# Altium footprint library VISHAY-TSOP75238.PcbLib: 1 footprints
Each footprint in its own frame and in the unit in brackets; x right, y up, seen from the top. Pads: shape width x height; smd on the part's side, far side on the other; paste and mask are expansions set on the pad; w line width, h text height; cw(c..) or ccw(c..) is an arc to the next point about the centre after c.
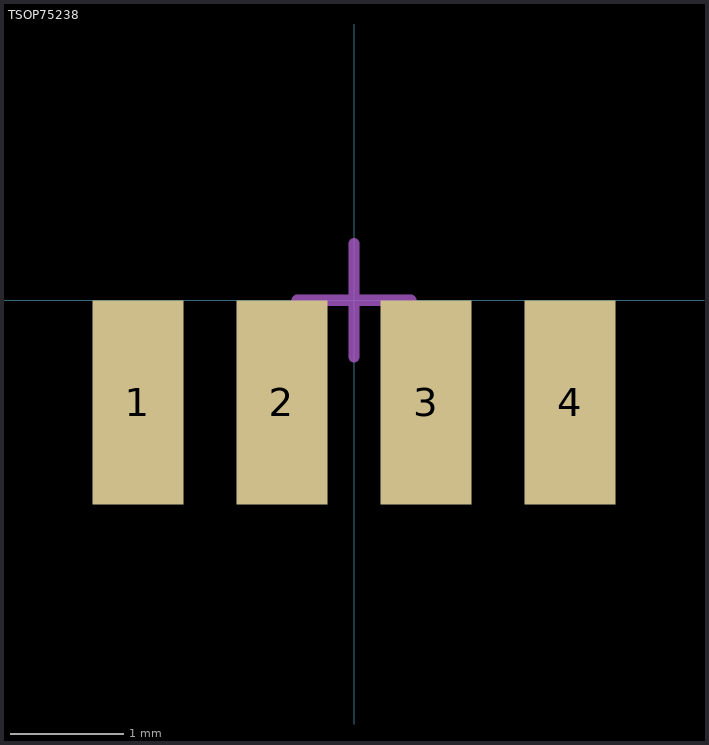
[diagram p0: the footprint, top view; thin cyan lines are the x and y axes]

## TSOP75238 [mm]
height 2.35
pads (4):
  rect 0.8x1.8 smd: 1(-1.905,-0.9) 2(-0.635,-0.9) 3(0.635,-0.9) 4(1.905,-0.9)
Mechanical 15:
  lines w0.1: -0.5,0 0.5,0 ; 0,-0.5 0,0.5
3D body "82673Heimdall_W.stp": height 2.51, standoff 0.01, extent -3.45,-1.65 3.45,1.45